# Altium schematic symbol library converter_Schlib.SchLib: 10 symbols
Pins are listed as number, name and electrical type; pins without a type are passive.

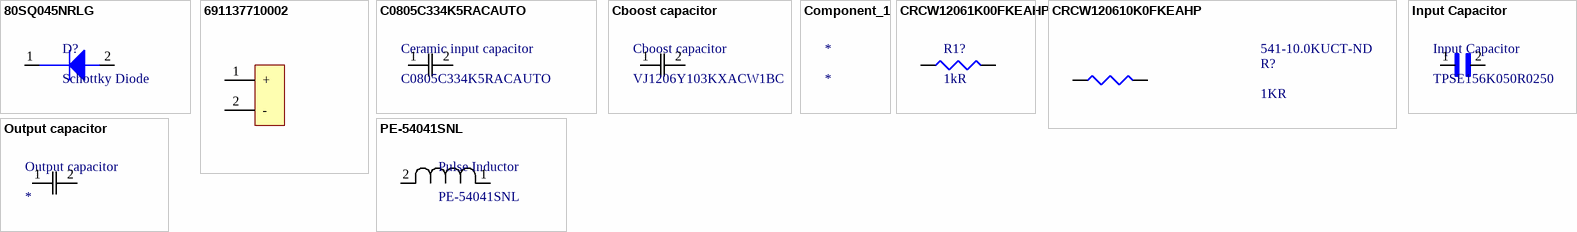
[diagram p0: symbols 80SQ045NRLG to PE-54041SNL]

## 80SQ045NRLG
designator D?, comment Schottky Diode
Rectifier Diode Schottky 45V 8A 2-Pin DO-201AD T/R / DIODE SCHOTTKY 45V 8A AXIAL; Manufacturer: ON Semiconductor; Manufacturer Part Number: 80SQ045NRLG; Max Surge Current: 140A; Max Reverse Current: 1mA; Forward Voltage: 550mV; Element Configuration: Single; Polarity: Standard; Supplier 1: Digi-Key; RoHS: Yes; Category: Schottky Diodes; Stock 1: 345; Pricing 1: 1=0.92000, 10=0.82300, 100=0.64170, 500=0.53008 (USD); Case/Package: DO-201AD; Number of Pins: 2; Weight: 0.01lb; Contact Plating: Tin,Matte; Min Operating Temperature: -65°C; Max Operating Temperature: 125°C; Package Quantity: 1; Forward Current: 8A; Packaging: Tape and Reel; Average Rectified Current: 8A; Max Reverse Leakage Current: 1mA; Max Repetitive Reverse Voltage (Vrrm): 45V; Peak Non-Repetitive Surge Current: 140A; Max Forward Surge Current (Ifsm): 140A; Voltage Rating (DC): 45V; Current Rating: 8A; Output Current: 8A; Max Reverse Voltage (DC): 45V; Series: -; Diameter: 5.3mm; Length: 2.5inch; Width: 0.25inch; Height: 9.5mm; Radiation Hardening: No; REACH SVHC: No SVHC; Lead Free: Lead Free; Halogen Free: Halogen Free; ComponentLink1URL: https://datasheet.ciiva.com/923/80sq045n-d-923312.pdf?src-supplier=Avnet; ComponentLink1Description: https://datasheet.ciiva.com/923/80sq045n-d-923312.pdf?src-supplier=Avnet; ComponentLink2URL: https://datasheet.ciiva.com/923/80sq045n-d-923312.pdf?src-supplier=Digi-Key; ComponentLink2Description: https://datasheet.ciiva.com/923/80sq045n-d-923312.pdf?src-supplier=Digi-Key; ComponentLink3URL: https://datasheet.ciiva.com/7962/85885-7962960.pdf?src-supplier=Element14; ComponentLink3Description: https://datasheet.ciiva.com/7962/85885-7962960.pdf?src-supplier=Element14; ComponentLink4URL: https://datasheet.ciiva.com/15144/getdatasheetpartid-53839-15144235.pdf?src-supplier=Verical; ComponentLink4Description: https://datasheet.ciiva.com/15144/getdatasheetpartid-53839-15144235.pdf?src-supplier=Verical; ComponentLink5URL: https://datasheet.ciiva.com/923/80sq045n-d-923313.pdf?src-supplier=Digi-Key; ComponentLink5Description: https://datasheet.ciiva.com/923/80sq045n-d-923313.pdf?src-supplier=Digi-Key; Supplier Part Number 1: 80SQ045NRLGOSCT-ND
pins: 1, 2

## 691137710002
designator i/o, comment 1x2 Terminal Block
TERM BLK 2POS SIDE ENTRY 5MM PCB; Manufacturer: Wurth Electronics; Manufacturer Part Number: 691137710002; Plating: Copper Alloy; Number of Levels: 1; Number of Positions Per Level: 2; Current: 16A; Voltage: 300V; Wire Gauge (Max): 30AWG; Wire Gauge (Min): 12AWG; Supplier 1: Digi-Key; RoHS: No; Category: Terminal Blocks; Stock 1: 791; Pricing 1: 1=0.38000, 10=0.34000, 50=0.30000, 100=0.27000, 500=0.26000 (USD); Mount: Through Hole; Color: Green; Housing Material: PC; Min Operating Temperature: -30°C; Max Operating Temperature: 120°C; Packaging: Bulk; Termination: Screw; ComponentLink1URL: https://katalog.we-online.de/em/datasheet/691137710002.pdf?src-supplier=Digi-Key; ComponentLink1Description: https://katalog.we-online.de/em/datasheet/691137710002.pdf?src-supplier=Digi-Key; Supplier Part Number 1: 732-10955-ND
pins: 1 +, 2 -

## C0805C334K5RACAUTO
designator Ceramic input capacitor
Cap Ceramic 0.33uF 50V X7R 10% SMD 0805 125C Paper T/R; Manufacturer: KEMET; Capacitance: 330nF; Supplier 1: Digi-Key; Manufacturer Part Number: C0805C334K5RACAUTO; RoHS: Yes; Category: Ceramic Capacitors; Stock 1: 7177; Pricing 1: 1=0.21000, 10=0.14400, 50=0.08660, 100=0.07320, 500=0.05004, 1000=0.04428 (USD); Mount: Surface Mount; Case/Package: 0805; Case Code (Metric): 2012; Case Code (Imperial): 0805; Contact Plating: Tin,Matte; Dielectric Material: Ceramic; Min Operating Temperature: -55°C; Max Operating Temperature: 125°C; Tolerance: 10%; Voltage Rating: 50V; Packaging: Tape and Reel; Package Quantity: 1; Voltage Rating (DC): 50V; Dielectric: X7R; Termination: SMD/SMT; Series: C; Construction: Flat; Length: 2mm; Width: 0.049inch; Height: 0.9mm; Thickness: 0.039inch; Depth: 1.25mm; Ratings: AEC-Q200; Radiation Hardening: No; REACH SVHC: No SVHC; ComponentLink1URL: https://datasheet.ciiva.com/7842/1776105-7842326.pdf?src-supplier=Element14; ComponentLink1Description: https://datasheet.ciiva.com/7842/1776105-7842326.pdf?src-supplier=Element14; ComponentLink2URL: https://datasheet.ciiva.com/22705/1776105-22705463.pdf?src-supplier=Element14; ComponentLink2Description: https://datasheet.ciiva.com/22705/1776105-22705463.pdf?src-supplier=Element14; Supplier Part Number 1: 399-6959-1-ND
footprint CAPC220145_100N_KEM
pins: 1, 2

## Cboost capacitor
designator Cboost capacitor, comment VJ1206Y103KXACW1BC
Cap Ceramic 0.01uF 50V X7R 10% SMD 1206 125C Paper T/R; Manufacturer: Vishay; Capacitance: 10nF; Supplier 1: Digi-Key; Manufacturer Part Number: VJ1206Y103KXACW1BC; RoHS: Yes; Category: Ceramic Capacitors; Stock 1: 755; Pricing 1: 1=0.30000, 10=0.20900, 50=0.13920, 100=0.11830, 500=0.08348, 1000=0.07305 (USD); Mount: Surface Mount; Case/Package: 1206; Case Code (Metric): 3216; Case Code (Imperial): 1206; Min Operating Temperature: -55°C; Max Operating Temperature: 125°C; Package Quantity: 4000; Voltage Rating: 50V; Tolerance: 10%; Packaging: Tape and Reel; Voltage Rating (DC): 50V; Dielectric: X7R; Termination: SMD/SMT; Voltage: 50V; Series: VJ; Construction: Flat; Length: 3.2mm; Width: 0.063inch; Height: 1.9mm; Thickness: 0.037inch; Depth: 1.6mm; Radiation Hardening: No; RoHS Compliant: Yes; ComponentLink1URL: https://datasheet.ciiva.com/178/vjw1bcbascomseries-178176.pdf?src-supplier=Digi-Key; ComponentLink1Description: https://datasheet.ciiva.com/178/vjw1bcbascomseries-178176.pdf?src-supplier=Digi-Key; ComponentLink2URL: https://datasheet.ciiva.com/17445/vjw1bcbascomseries-17445850.pdf?src-supplier=Avnet+Europe; ComponentLink2Description: https://datasheet.ciiva.com/17445/vjw1bcbascomseries-17445850.pdf?src-supplier=Avnet+Europe; ComponentLink3URL: https://datasheet.ciiva.com/16382/vjw1bcbascomseries-16382252.pdf?src-supplier=Future+Electronics; ComponentLink3Description: https://datasheet.ciiva.com/16382/vjw1bcbascomseries-16382252.pdf?src-supplier=Future+Electronics; Supplier Part Number 1: 720-1539-1-ND
footprint CAP_VJ1206_VIS
pins: 1, 2

## Component_1
designator *

## CRCW12061K00FKEAHP
designator R1?, comment 1kR
VISHAY - CRCW12061K00FKEAHP - RES, THICK FILM, 1K, 1%, 0.5W, 1206, REEL; Manufacturer: Vishay Dale; Voltage Rating: 200V; Power Rating: 500mW; Temperature Coefficient: 100ppm/°C; Supplier 1: Digi-Key; Manufacturer Part Number: CRCW12061K00FKEAHP; RoHS: Yes; Category: Chip SMD Resistors; Stock 1: 56465; Pricing 1: 1=0.46000, 10=0.32900, 100=0.13170, 1000=0.06491, 2500=0.06013 (USD); Mount: Surface Mount; Case/Package: 1206; Number of Pins: 2; Weight: 0.000353oz; Case Code (Imperial): 1206; Case Code (Metric): 3216; Contact Plating: Tin; Min Operating Temperature: -55°C; Max Operating Temperature: 155°C; Resistance: 1kR; Tolerance: 1%; Packaging: Tape and Reel; Package Quantity: 10; Termination: SMD/SMT; Resistor Type: Thick Film; Number of Terminations: 2; Max Power Dissipation: 500mW; Voltage Rating (DC): 200V; Features: Automotive AEC-Q200; Series: CRCW-HP; Resistance Tolerance: 1%; Technology: THICK FILM; Construction: Rectangular; Length: 3.1mm; Width: 1.6mm; Height: 0.5mm; Depth: 1.6mm; Radiation Hardening: No; REACH SVHC: Unknown; Military Standard: Not; Lead Free: Lead Free; RoHS Compliant: Yes; ComponentLink1URL: https://datasheet.ciiva.com/9109/crcwhpe3-9109929.pdf?src-supplier=Avnet; ComponentLink1Description: https://datasheet.ciiva.com/9109/crcwhpe3-9109929.pdf?src-supplier=Avnet; ComponentLink2URL: https://datasheet.ciiva.com/2480/crcwhpe3-2480489.pdf?src-supplier=Digi-Key; ComponentLink2Description: https://datasheet.ciiva.com/2480/crcwhpe3-2480489.pdf?src-supplier=Digi-Key; ComponentLink3URL: https://datasheet.ciiva.com/2480/crcwhpe3-2480490.pdf?src-supplier=Digi-Key; ComponentLink3Description: https://datasheet.ciiva.com/2480/crcwhpe3-2480490.pdf?src-supplier=Digi-Key; ComponentLink4URL: https://datasheet.ciiva.com/2480/crcwhpe3-2480491.pdf?src-supplier=Digi-Key; ComponentLink4Description: https://datasheet.ciiva.com/2480/crcwhpe3-2480491.pdf?src-supplier=Digi-Key; ComponentLink5URL: https://datasheet.ciiva.com/5541/crcwhpe3-46056-5541174.pdf?src-supplier=Mouser; ComponentLink5Description: https://datasheet.ciiva.com/5541/crcwhpe3-46056-5541174.pdf?src-supplier=Mouser; ComponentLink6URL: https://datasheet.ciiva.com/28621/1747939-28621487.pdf?src-supplier=Element14; ComponentLink6Description: https://datasheet.ciiva.com/28621/1747939-28621487.pdf?src-supplier=Element14; ComponentLink7URL: https://datasheet.ciiva.com/17204/crcwhpe3-17204410.pdf?src-supplier=Avnet+Europe; ComponentLink7Description: https://datasheet.ciiva.com/17204/crcwhpe3-17204410.pdf?src-supplier=Avnet+Europe; ComponentLink8URL: https://datasheet.ciiva.com/7694/1750852-7694955.pdf?src-supplier=Element14; ComponentLink8Description: https://datasheet.ciiva.com/7694/1750852-7694955.pdf?src-supplier=Element14; ComponentLink9URL: https://datasheet.ciiva.com/46391/1885357-46391644.pdf?src-supplier=Element14; ComponentLink9Description: https://datasheet.ciiva.com/46391/1885357-46391644.pdf?src-supplier=Element14; ComponentLink10URL: https://datasheet.ciiva.com/46441/424479-46441611.pdf?src-supplier=Element14; ComponentLink10Description: https://datasheet.ciiva.com/46441/424479-46441611.pdf?src-supplier=Element14; Supplier Part Number 1: 541-1.00KUCT-ND
pins: 1, 2

## CRCW120610K0FKEAHP
designator R?, comment 1KR  Supplier Part Number 1: 541-10.0KUCT-ND
Res Thick Film 1206 10K Ohm 1% 1/2W 100ppm/C Molded SMD SMD Paper T/R; Manufacturer: Vishay; Manufacturer Part Number: CRCW120610K0FKEAHP; Resistance: 10kR; Power Rating: 500mW; Voltage Rating: 200V; Temperature Coefficient: 100ppm/°C; Supplier 1: Digi-Key; RoHS: Yes; Category: Chip SMD Resistors; Stock 1: 27935; Pricing 1: 1=0.46000, 10=0.32900, 100=0.13170, 1000=0.06491, 2500=0.06013 (USD); Mount: Surface Mount; Case/Package: 1206; Weight: 0.000353oz; Case Code (Metric): 3216; Case Code (Imperial): 1206; Contact Plating: Tin; Min Operating Temperature: -55°C; Max Operating Temperature: 155°C; Package Quantity: 10; Tolerance: 1%; Packaging: Tape and Reel; Resistor Type: Thick Film; Number of Terminations: 2; Termination: SMD/SMT; Max Power Dissipation: 500mW; Voltage Rating (DC): 200V; Features: Automotive AEC-Q200; Series: CRCW-HP; Resistance Tolerance: 1%; Technology: THICK FILM; Construction: Rectangular; Length: 3.1mm; Width: 0.063inch; Height: 0.5mm; Depth: 1.6mm; Radiation Hardening: No; REACH SVHC: Unknown; Military Standard: Not; Lead Free: Lead Free; RoHS Compliant: Yes; ComponentLink1URL: https://datasheet.ciiva.com/7694/1678154-7694954.pdf?src-supplier=Element14; ComponentLink1Description: https://datasheet.ciiva.com/7694/1678154-7694954.pdf?src-supplier=Element14; ComponentLink2URL: https://datasheet.ciiva.com/5542/crcwhpe3-46056-5542975.pdf?src-supplier=Mouser; ComponentLink2Description: https://datasheet.ciiva.com/5542/crcwhpe3-46056-5542975.pdf?src-supplier=Mouser; ComponentLink3URL: https://datasheet.ciiva.com/9052/crcwhpe3-9052621.pdf?src-supplier=Avnet; ComponentLink3Description: https://datasheet.ciiva.com/9052/crcwhpe3-9052621.pdf?src-supplier=Avnet; ComponentLink4URL: https://datasheet.ciiva.com/2480/crcwhpe3-2480510.pdf?src-supplier=Digi-Key; ComponentLink4Description: https://datasheet.ciiva.com/2480/crcwhpe3-2480510.pdf?src-supplier=Digi-Key; ComponentLink5URL: https://datasheet.ciiva.com/2480/crcwhpe3-2480511.pdf?src-supplier=Digi-Key; ComponentLink5Description: https://datasheet.ciiva.com/2480/crcwhpe3-2480511.pdf?src-supplier=Digi-Key; ComponentLink6URL: https://datasheet.ciiva.com/2480/crcwhpe3-2480512.pdf?src-supplier=Digi-Key; ComponentLink6Description: https://datasheet.ciiva.com/2480/crcwhpe3-2480512.pdf?src-supplier=Digi-Key; ComponentLink7URL: https://datasheet.ciiva.com/46391/1885357-46391643.pdf?src-supplier=Element14; ComponentLink7Description: https://datasheet.ciiva.com/46391/1885357-46391643.pdf?src-supplier=Element14; ComponentLink8URL: https://datasheet.ciiva.com/28588/1912814-28588909.pdf?src-supplier=Element14; ComponentLink8Description: https://datasheet.ciiva.com/28588/1912814-28588909.pdf?src-supplier=Element14; ComponentLink9URL: https://datasheet.ciiva.com/17190/crcwhpe3-17190255.pdf?src-supplier=Avnet+Europe; ComponentLink9Description: https://datasheet.ciiva.com/17190/crcwhpe3-17190255.pdf?src-supplier=Avnet+Europe
pins: 1, 2

## Input Capacitor
designator Input Capacitor, comment TPSE156K050R0250
AVX - TPSE156K050R0250 - Surface Mount Tantalum Capacitor, 15 µF, 50 V, 2917 [7343 Metric], TPS Series, ± 10%, -55 °C; Manufacturer: Kyocera AVX; Capacitance: 15uF; Voltage Rating: 50V; ESR (Equivalent Series Resistance): 250mR; Ripple Current: 325uA; Leakage Current: 5uA; Polarity: Polar; Dissipation Factor: 6%; Supplier 1: Digi-Key; Manufacturer Part Number: TPSE156K050R0250; RoHS: Yes; Category: Tantalum Capacitors; Stock 1: 13; Pricing 1: 1=2.43000, 10=1.96800, 50=1.71740, 100=1.50270 (USD); Mount: Surface Mount,PCB; Case/Package: 7343-43; Number of Pins: 2; Case Code (Metric): 7343; Case Code (Imperial): 2917; Dielectric Material: Tantalum; Min Operating Temperature: -55°C; Max Operating Temperature: 125°C; Tolerance: 10%; Package Quantity: 1; Packaging: Tape and Reel; Voltage Rating (DC): 50V; Termination: SMD/SMT; Voltage: 50V; Features: General Purpose; Series: TPS; Construction: Flat; Length: 7.3mm; Width: 4.3mm; Height: 4.1mm; Height - Seated (Max): 0.169inch; Depth: 4.3mm; Lead Pitch: 4.4mm; Radiation Hardening: No; REACH SVHC: No SVHC; Lead Free: Lead Free; RoHS Compliant: Yes; ComponentLink1URL: https://datasheet.ciiva.com/27052/1408147-27052202.pdf?src-supplier=Jameco; ComponentLink1Description: https://datasheet.ciiva.com/27052/1408147-27052202.pdf?src-supplier=Jameco; ComponentLink2URL: https://datasheet.ciiva.com/26915/getdatasheetpartid-113553-26915162.pdf?src-supplier=Verical; ComponentLink2Description: https://datasheet.ciiva.com/26915/getdatasheetpartid-113553-26915162.pdf?src-supplier=Verical; ComponentLink3URL: https://datasheet.ciiva.com/26341/806578-da-01-en-smd-tantal15uf-50v-10-0-250r-400st-26341830.pdf?src-supplier=Conrad; ComponentLink3Description: https://datasheet.ciiva.com/26341/806578-da-01-en-smd-tantal15uf-50v-10-0-250r-400st-26341830.pdf?src-supplier=Conrad; ComponentLink4URL: https://datasheet.ciiva.com/266/tps-266035.pdf?src-supplier=Digi-Key; ComponentLink4Description: https://datasheet.ciiva.com/266/tps-266035.pdf?src-supplier=Digi-Key; ComponentLink5URL: https://datasheet.ciiva.com/266/tps-266036.pdf?src-supplier=Digi-Key; ComponentLink5Description: https://datasheet.ciiva.com/266/tps-266036.pdf?src-supplier=Digi-Key; ComponentLink6URL: https://datasheet.ciiva.com/266/tps-266037.pdf?src-supplier=Digi-Key; ComponentLink6Description: https://datasheet.ciiva.com/266/tps-266037.pdf?src-supplier=Digi-Key; ComponentLink7URL: https://datasheet.ciiva.com/11230/tps-11230204.pdf?src-supplier=Avnet; ComponentLink7Description: https://datasheet.ciiva.com/11230/tps-11230204.pdf?src-supplier=Avnet; ComponentLink8URL: https://datasheet.ciiva.com/12882/tps-23028-12882493.pdf?src-supplier=Mouser; ComponentLink8Description: https://datasheet.ciiva.com/12882/tps-23028-12882493.pdf?src-supplier=Mouser; ComponentLink9URL: https://datasheet.ciiva.com/17339/tps-17339833.pdf?src-supplier=Avnet+Europe; ComponentLink9Description: https://datasheet.ciiva.com/17339/tps-17339833.pdf?src-supplier=Avnet+Europe; ComponentLink10URL: https://datasheet.ciiva.com/16374/tps-16374888.pdf?src-supplier=Future+Electronics; ComponentLink10Description: https://datasheet.ciiva.com/16374/tps-16374888.pdf?src-supplier=Future+Electronics; ComponentLink11URL: https://datasheet.ciiva.com/7914/1680477-7914799.pdf?src-supplier=Element14; ComponentLink11Description: https://datasheet.ciiva.com/7914/1680477-7914799.pdf?src-supplier=Element14; ComponentLink12URL: https://datasheet.ciiva.com/14593/70001047-14593093.pdf?src-supplier=Allied+Electronics; ComponentLink12Description: https://datasheet.ciiva.com/14593/70001047-14593093.pdf?src-supplier=Allied+Electronics; ComponentLink13URL: https://datasheet.ciiva.com/14605/70001047-14605032.pdf?src-supplier=Allied+Electronics; ComponentLink13Description: https://datasheet.ciiva.com/14605/70001047-14605032.pdf?src-supplier=Allied+Electronics; Supplier Part Number 1: 478-3112-1-ND
footprint CAPPM7343X310N
pins: 1, 2

## Output capacitor
designator Output capacitor
CAPACITOR TANT, 68UF, 10V, 0.1 OHM, 0.1, SMD; Capacitance:68µF; Capacitance Tolerance:± 10%; Capacitor Dielectric Type:Tantalum; Capacitor Mounting:SMD; Capacitor Terminals:SMD; ESR:0.1ohm; Filter Terminals:Surface Mount ;RoHS Compliant: Yes; Manufacturer: Vishay Sprague; Manufacturer Part Number: 594D686X9010C2T; ESR (Equivalent Series Resistance): 100mR; Ripple Current: 1.05A; Leakage Current: 6.8uA; Polarity: Polar; Dissipation Factor: 6%; Supplier 1: Digi-Key; RoHS: Yes; Category: Tantalum Capacitors; Stock 1: 706; Pricing 1: 1=3.14000, 10=2.54100, 50=2.21760, 100=1.94040 (USD); Mount: Surface Mount,PCB; Case/Package: 2812; Number of Pins: 2; Case Code (Metric): 7132; Case Code (Imperial): 2812; Dielectric Material: Tantalum; Min Operating Temperature: -55°C; Max Operating Temperature: 125°C; Capacitance: 68uF; Tolerance: 10%; Voltage Rating: 10V; Packaging: Tape and Reel; Package Quantity: 500; Voltage Rating (DC): 10V; Termination: SMD/SMT; Voltage: 10V; Features: General Purpose; Series: 594D; Construction: Flat; Length: 7.1mm; Width: 0.126inch; Height: 2.5mm; Height - Seated (Max): 0.11inch; Depth: 3.2mm; REACH SVHC: Unknown; Lead Free: Lead Free; RoHS Compliant: Yes; ComponentLink1URL: https://datasheet.ciiva.com/11793/0900766b80d97c0f-11793961.pdf?src-supplier=RSComponents; ComponentLink1Description: https://datasheet.ciiva.com/11793/0900766b80d97c0f-11793961.pdf?src-supplier=RSComponents; ComponentLink2URL: https://datasheet.ciiva.com/274/594d-274120.pdf?src-supplier=Digi-Key; ComponentLink2Description: https://datasheet.ciiva.com/274/594d-274120.pdf?src-supplier=Digi-Key; ComponentLink3URL: https://datasheet.ciiva.com/3004/594d-3004965.pdf?src-supplier=Avnet; ComponentLink3Description: https://datasheet.ciiva.com/3004/594d-3004965.pdf?src-supplier=Avnet; ComponentLink4URL: https://datasheet.ciiva.com/3004/594d-3004966.pdf?src-supplier=Avnet; ComponentLink4Description: https://datasheet.ciiva.com/3004/594d-3004966.pdf?src-supplier=Avnet; ComponentLink5URL: https://datasheet.ciiva.com/16632/594d-16632071.pdf?src-supplier=Avnet+Europe; ComponentLink5Description: https://datasheet.ciiva.com/16632/594d-16632071.pdf?src-supplier=Avnet+Europe; ComponentLink6URL: https://datasheet.ciiva.com/16359/594d-16359591.pdf?src-supplier=Future+Electronics; ComponentLink6Description: https://datasheet.ciiva.com/16359/594d-16359591.pdf?src-supplier=Future+Electronics; ComponentLink7URL: https://datasheet.ciiva.com/1463/438286-1463899.pdf?src-supplier=Element14; ComponentLink7Description: https://datasheet.ciiva.com/1463/438286-1463899.pdf?src-supplier=Element14; ComponentLink8URL: https://datasheet.ciiva.com/18444/70212531-18444348.pdf?src-supplier=Allied+Electronics; ComponentLink8Description: https://datasheet.ciiva.com/18444/70212531-18444348.pdf?src-supplier=Allied+Electronics; Supplier Part Number 1: 718-594D686X9010C2TCT-ND
footprint CAP_594D_C_VIS
pins: 1, 2

## PE-54041SNL
designator Pulse Inductor
Inductor Power Wirewound 25uH 20% 3A 40mOhm DCR; Manufacturer: Pulse; Shielding: Unshielded; DC Resistance (DCR): 40mR; Supplier 1: Digi-Key; Manufacturer Part Number: PE-54041SNL; RoHS: Yes; Category: Fixed Inductors; Stock 1: 95; Pricing 1: 1=3.03000, 10=2.77800, 25=2.52480, 50=2.12100, 100=1.81800, 250=1.71700, 500=1.61600, 1000=1.51500, 2500=1.46450 (USD); Mount: Surface Mount; Case/Package: SMD/SMT; Min Operating Temperature: -40°C; Max Operating Temperature: 130°C; Packaging: Bulk; Tolerance: 20%; Package Quantity: 30; Current Rating: 3A; Inductance: 25uH; Max DC Current: 3A; Termination: SMD/SMT; DC Current: 3A; Series: LCI; Length: 17.78mm; Width: 0.67inch; Height: 0.39inch; Depth: 17.02mm; Radiation Hardening: No; Military Standard: Not; Lead Free: Lead Free; RoHS Compliant: Yes; ComponentLink1URL: http://www.mouser.com/ds/2/336/-268328.pdf?src-supplier=Mouser; ComponentLink1Description: http://www.mouser.com/ds/2/336/-268328.pdf?src-supplier=Mouser; ComponentLink2URL: http://components.arrow.com/part/dataview/42118542S8144333N6149?src-supplier=Arrow+Electronics; ComponentLink2Description: http://components.arrow.com/part/dataview/42118542S8144333N6149?src-supplier=Arrow+Electronics; ComponentLink3URL: http://components.arrow.com/part/dataview/0323_01095901?src-supplier=Arrow+Europe; ComponentLink3Description: http://components.arrow.com/part/dataview/0323_01095901?src-supplier=Arrow+Europe; ComponentLink4URL: http://productfinder.pulseeng.com/products/datasheets/SPM2007_47.pdf?src-supplier=Avnet; ComponentLink4Description: http://productfinder.pulseeng.com/products/datasheets/SPM2007_47.pdf?src-supplier=Avnet; ComponentLink5URL: http://productfinder.pulseeng.com/products/datasheets/SPM2007_47.pdf?src-supplier=Digi-Key; ComponentLink5Description: http://productfinder.pulseeng.com/products/datasheets/SPM2007_47.pdf?src-supplier=Digi-Key; ComponentLink6URL: http://ww2.pulseeng.com/products/datasheets/SPM2007_47.pdf?src-supplier=Avnet+Europe; ComponentLink6Description: http://ww2.pulseeng.com/products/datasheets/SPM2007_47.pdf?src-supplier=Avnet+Europe; ComponentLink7URL: https://www.verical.com/server-webapp/html/getDatasheet?partID=180366&src-supplier=Verical; ComponentLink7Description: https://www.verical.com/server-webapp/html/getDatasheet?partID=180366&src-supplier=Verical; Supplier Part Number 1: 553-1424-ND
pins: 1, 2